# EAGLE library part S10B-PUDSS-1 (library con-jst-pud)
JST connector, PUD series, 2.0mm spacing, crimp style, wire-to-board, 10 pin, side entry
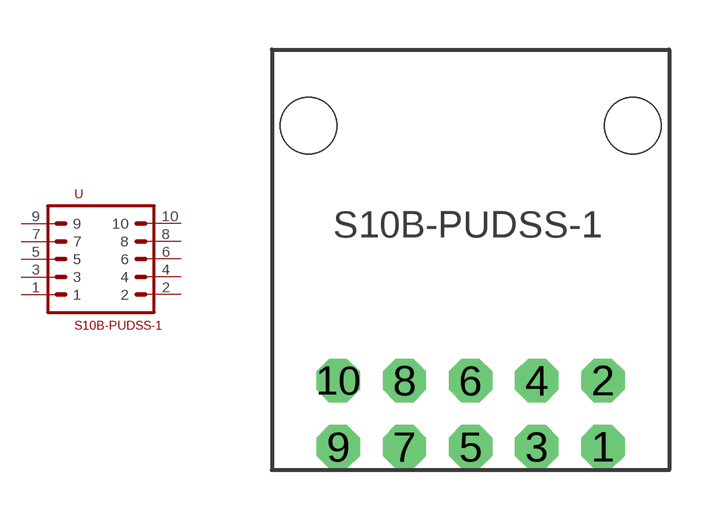
[diagram p3: symbol with the pads of PUD_10_PIN_SIDE_ENTRY; footprint PUD_10_PIN_SIDE_ENTRY]

Designator prefix -

## S10B-PUDSS-1 (DIGIKEY: 455-2486-ND; MF: JST; MPN: S10B-PUDSS-1)  [PUD_10_PIN_SIDE_ENTRY]
1  1
2  2
3  3
4  4
5  5
6  6
7  7
8  8
9  9
10  10

## Footprint PUD_10_PIN_SIDE_ENTRY (pad centres in mm)
drill 0.8 octagon: 1 4,-6; 2 4,-4; 3 2,-6; 4 2,-4; 5 0,-6; 6 0,-4; 7 -2,-6; 8 -2,-4; 9 -4,-6; 10 -4,-4
hole 1.7 at 4.9,3.7
hole 1.7 at -4.9,3.7